# Altium schematic symbol library 2020-10-10_07-37-00.SchLib: 2 symbols
Pins are listed as number, name and electrical type; pins without a type are passive.

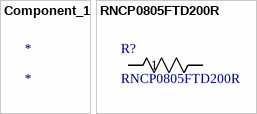
[diagram p0: symbols Component_1 to RNCP0805FTD200R]

## Component_1
designator *

## RNCP0805FTD200R
designator R?
No Description Available; Vendor: Stackpole International; Built_By: EMA_UL_Team; SourceLibrary: Stackpole_2014-12-31; Manufacturer_Part_Number: RNCP0805FTD200R; Copyright: Copyright (C) 2018 Accelerated Designs. All rights reserved; RefDes: RefDes; Type: DEV
footprint STA_RNCP0805_STP
pins: 1, 2